# Altium schematic symbol library kmilo17pet-TI_MSP430.SchLib: 1463 symbols (part 26 of 130)
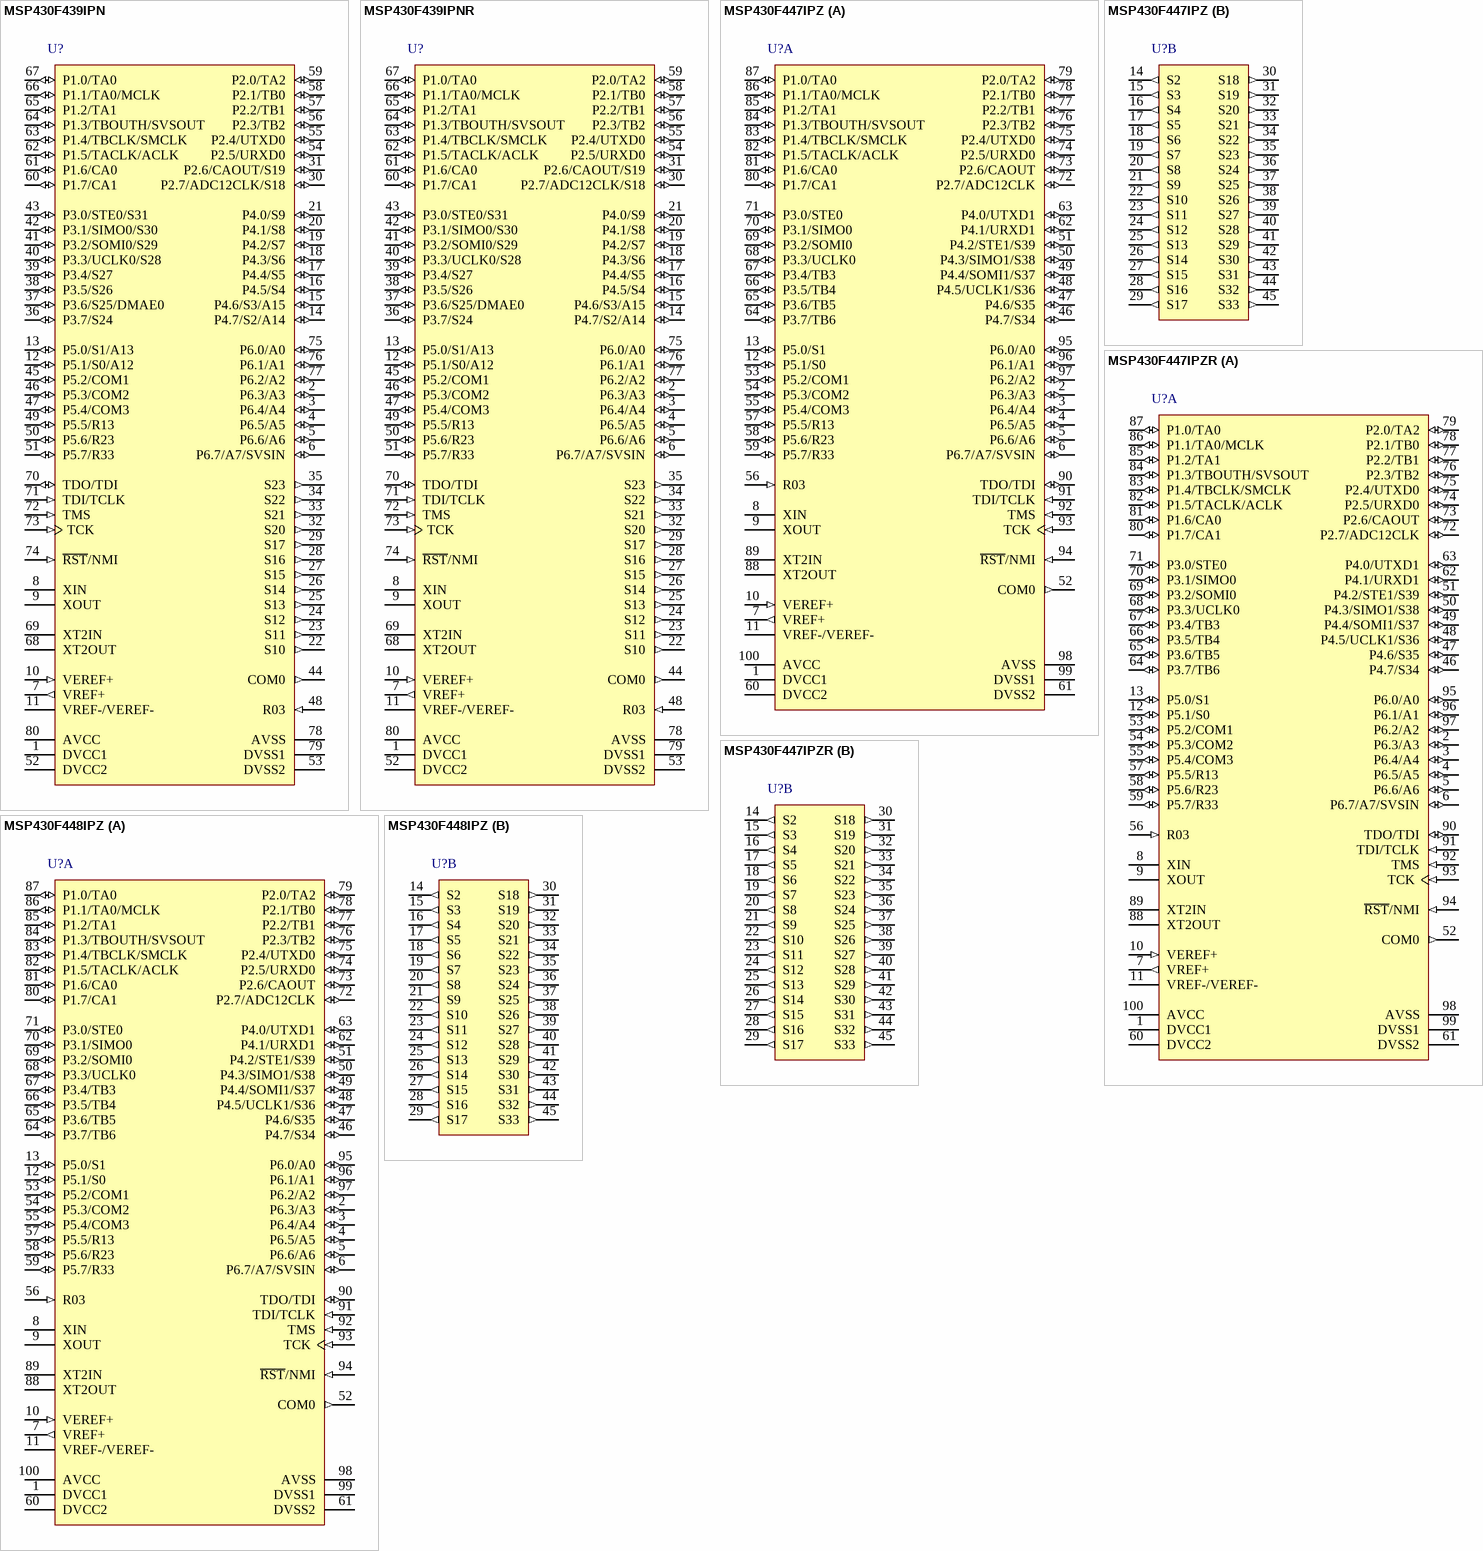
[diagram p349: symbols MSP430F439IPN to MSP430F448IPZ]

## MSP430F448IPZ
designator U?
8 MHz Mixed Signal Microcontroller with 48 KB Flash, 2048 B SRAM and 48 GPIOs, -40 to 85 degC, 100-pin QFP (PZ), Green (RoHS & no Sb/Br); Manufacturer: Texas Instruments; PartNumber: MSP430F448IPZ; ADC: 12-bit SAR; Brown Out Reset: Yes; Flash(KB): 48; Frequency(MHz): 8; LCD Segments: 160; Multiplier: 16x16; SRAM(B): 2048; SubFamily: 4 Series with LCD; USART: 2; DatasheetVersion: SLAS344G; PackageVersion: 4040149/B; PackageReference: PZ100; PackageDescription: 100-Pin Plastic Flat Pack, Body 14 x 14 mm, Pitch 0.5 mm; Supplier 1: Digi-Key; Supplier Part Number 1: 296-25607-2-ND; Supplier 2: Digi-Key; Supplier Part Number 2: 296-25607-1-ND; Supplier 3: Digi-Key; Supplier Part Number 3: 296-25607-6-ND; Supplier 4: Mouser; Supplier Part Number 4: 595-MSP430F4481IPZR; Comparators: Yes; Eco-Plan: Green (RoHS & no Sb/Br); GPIO: 48; SVS: Yes; Temp Sensor: Yes; Watchdog: Yes; Mounting Technology: Surface Mount; Code_JEDEC: MS-026; ComponentLink1Description: Manufacturer URL; ComponentLink1URL: http://www.ti.com/; ComponentLink2Description: Datasheet; ComponentLink2URL: http://www.ti.com/general/docs/lit/getliterature.tsp?genericPartNumber=MSP430F448&fileType=pdf; ComponentLink3Description: Package Specification; ComponentLink3URL: http://www.ti.com/lit/ml/mtqf013a/mtqf013a.pdf
footprint TI-PZ100_N (QFP, 100-Leads, Body 14x14mm, Pitch 0.5mm, IPC Medium Density)
part A pins: 1 DVCC1 (power) "Digital supply voltage, positive terminal.", 2 P6.3/A3 (io), 3 P6.4/A4 (io), 4 P6.5/A5 (io), 5 P6.6/A6 (io), 6 P6.7/A7/SVSIN (io), 7 VREF+ (out) "Output of positive terminal of the reference voltage in the ADC", 8 XIN "Input port for crystal oscillator XT1. Standard or watch crystals can be connected.", 9 XOUT "Output terminal of crystal oscillator XT1", 10 VEREF+ (in) "Input for an external reference voltage to the ADC", 11 VREF-/VEREF-, 12 P5.1/S0 (io), 13 P5.0/S1 (io), 46 P4.7/S34 (io), 47 P4.6/S35 (io), 48 P4.5/UCLK1/S36 (io), 49 P4.4/SOMI1/S37 (io), 50 P4.3/SIMO1/S38 (io), 51 P4.2/STE1/S39 (io), 52 COM0 (out) "COM0-3 are used for LCD backplanes.", 53 P5.2/COM1 (io), 54 P5.3/COM2 (io), 55 P5.4/COM3 (io), 56 R03 (in) "Input port of fourth positive (lowest) analog LCD level (V5)", 57 P5.5/R13 (io), 58 P5.6/R23 (io), 59 P5.7/R33 (io), 60 DVCC2 (power) "Digital supply voltage, positive terminal.", 61 DVSS2 (power) "Digital supply voltage, negative terminal.", 62 P4.1/URXD1 (io), 63 P4.0/UTXD1 (io), 64 P3.7/TB6 (io), 65 P3.6/TB5 (io), 66 P3.5/TB4 (io), 67 P3.4/TB3 (io), 68 P3.3/UCLK0 (io), 69 P3.2/SOMI0 (io), 70 P3.1/SIMO0 (io), 71 P3.0/STE0 (io), 72 P2.7/ADC12CLK (io), 73 P2.6/CAOUT (io), 74 P2.5/URXD0 (io), 75 P2.4/UTXD0 (io), 76 P2.3/TB2 (io), 77 P2.2/TB1 (io), 78 P2.1/TB0 (io), 79 P2.0/TA2 (io), 80 P1.7/CA1 (io), 81 P1.6/CA0 (io), 82 P1.5/TACLK/ACLK (io), 83 P1.4/TBCLK/SMCLK (io), 84 P1.3/TBOUTH/SVSOUT (io), 85 P1.2/TA1 (io), 86 P1.1/TA0/MCLK (io), 87 P1.0/TA0 (io), 88 XT2OUT "Output terminal of crystal oscillator XT2", 89 XT2IN "Input port for crystal oscillator XT2. Only standard crystals can be connected.", 90 TDO/TDI (io), 91 TDI/TCLK (in), 92 TMS (in) "Test mode select. TMS is used as an input port for device programming and test.", 93 TCK (in) "Test clock. TCK is the clock input port for device programming and test.", 94 ~{RST}/NMI (in), 95 P6.0/A0 (io), 96 P6.1/A1 (io), 97 P6.2/A2 (io), 98 AVSS (power) "Analog supply voltage, negative terminal. Supplies SVS, brownout, oscillator, comparator_A, ADC12, port 1, and LCD resistive divider circuitry.", 99 DVSS1 (power) "Digital supply voltage, negative terminal.", 100 AVCC (power) "Analog supply voltage, positive terminal. Supplies SVS, brownout, oscillator, comparator_A, ADC12, port 1, and LCD resistive divider circuitry; must not power up prior to DVCC1/DVCC2."
part B pins: 14 S2 (out) "LCD segment output 2", 15 S3 (out) "LCD segment output 3", 16 S4 (out) "LCD segment output 4", 17 S5 (out) "LCD segment output 5", 18 S6 (out) "LCD segment output 6", 19 S7 (out) "LCD segment output 7", 20 S8 (out) "LCD segment output 8", 21 S9 (out) "LCD segment output 9", 22 S10 (out) "LCD segment output 10", 23 S11 (out) "LCD segment output 11", 24 S12 (out) "LCD segment output 12", 25 S13 (out) "LCD segment output 13", 26 S14 (out) "LCD segment output 14", 27 S15 (out) "LCD segment output 15", 28 S16 (out) "LCD segment output 16", 29 S17 (out) "LCD segment output 17", 30 S18 (out) "LCD segment output 18", 31 S19 (out) "LCD segment output 19", 32 S20 (out) "LCD segment output 20", 33 S21 (out) "LCD segment output 21", 34 S22 (out) "LCD segment output 22", 35 S23 (out) "LCD segment output 23", 36 S24 (out) "LCD segment output 24", 37 S25 (out) "LCD segment output 25", 38 S26 (out) "LCD segment output 26", 39 S27 (out) "LCD segment output 27", 40 S28 (out) "LCD segment output 28", 41 S29 (out) "LCD segment output 29", 42 S30 (out) "LCD segment output 30", 43 S31 (out) "LCD segment output 31", 44 S32 (out) "LCD segment output 32", 45 S33 (out) "LCD segment output 33"

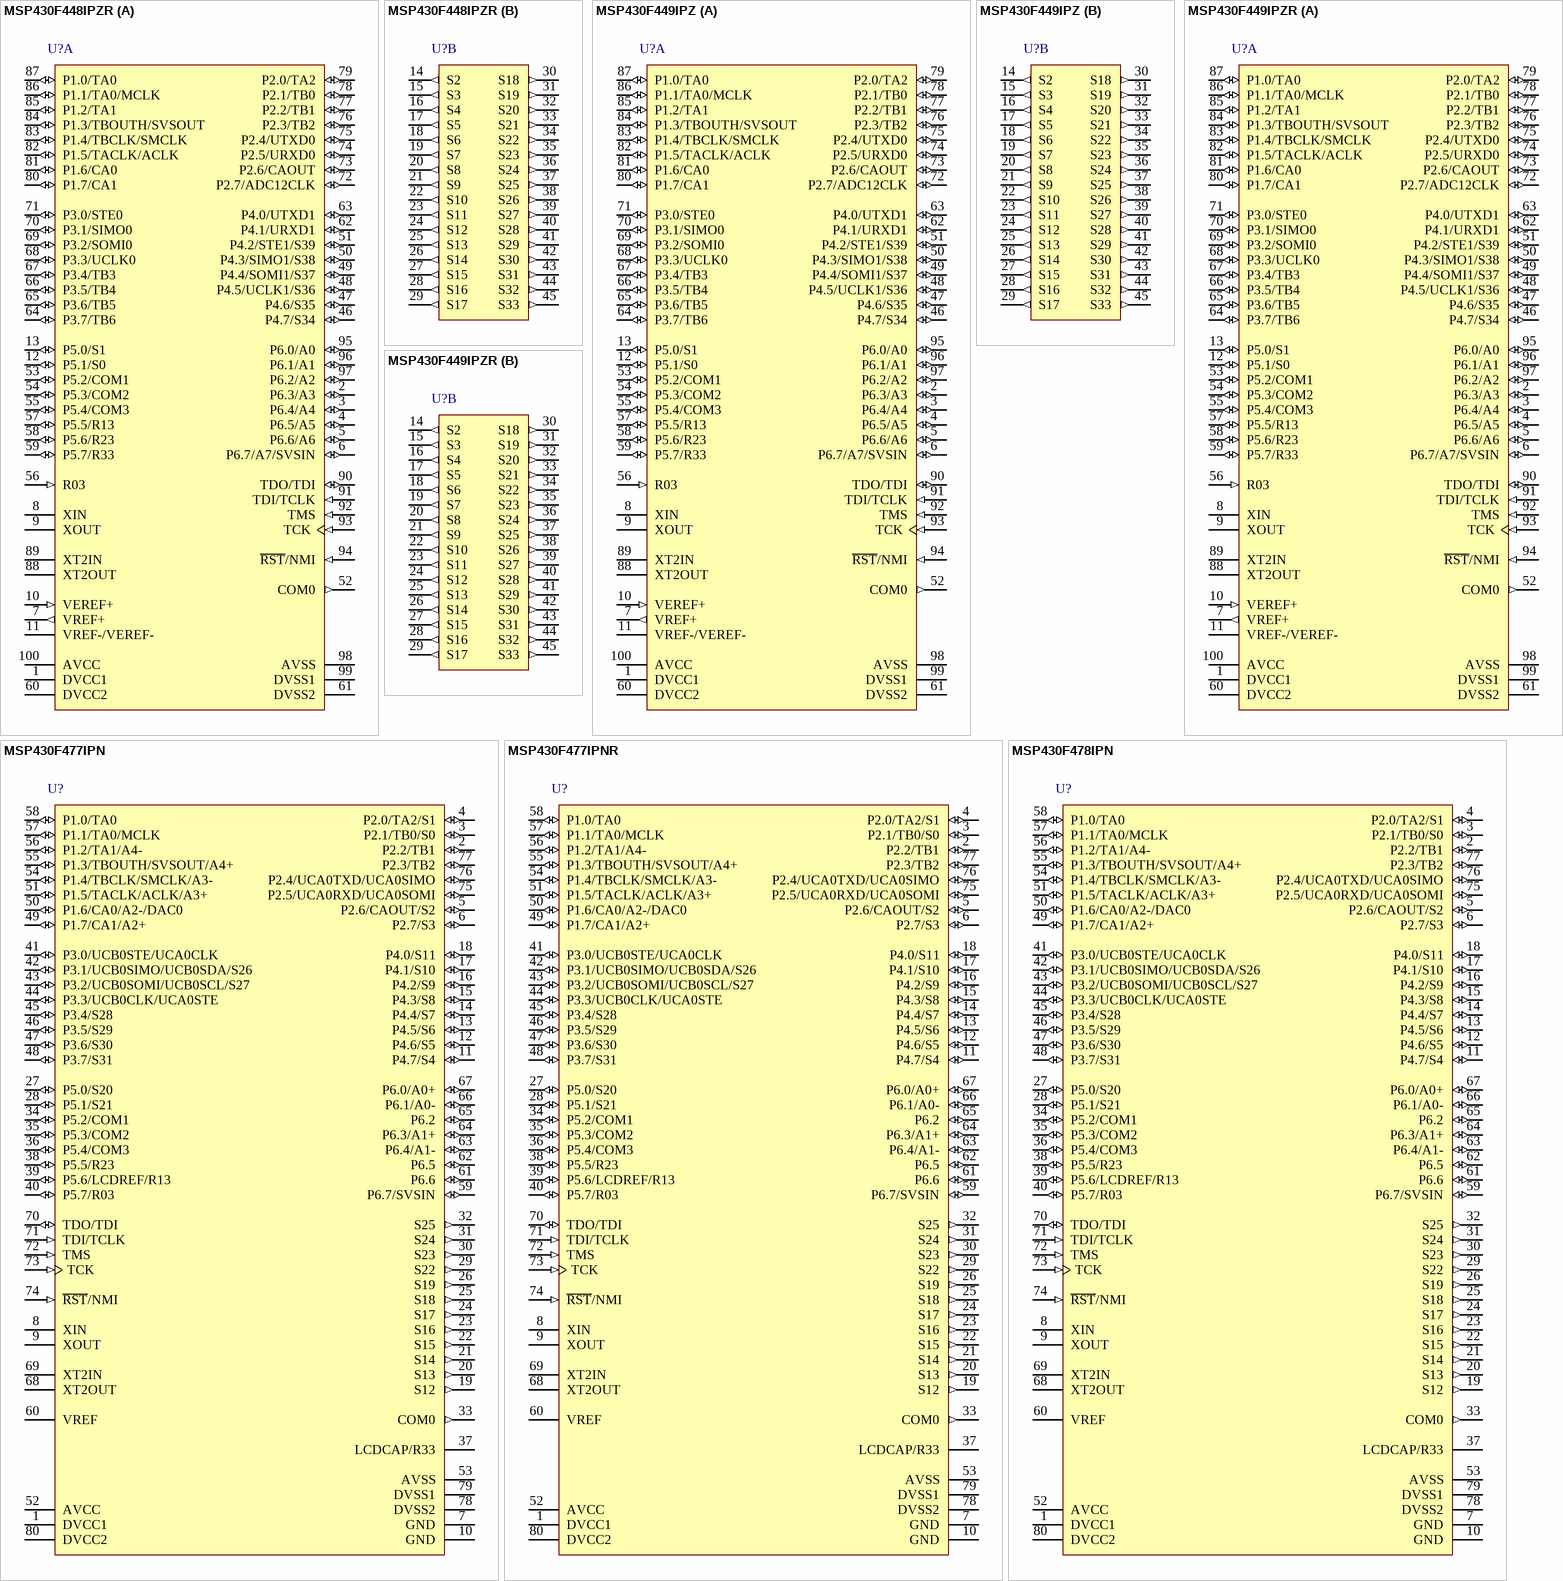
[diagram p38: symbols MSP430F448IPZR to MSP430F478IPN]

## MSP430F448IPZR
designator U?
8 MHz Mixed Signal Microcontroller with 48 KB Flash, 2048 B SRAM and 48 GPIOs, -40 to 85 degC, 100-pin QFP (PZ), Green (RoHS & no Sb/Br); Manufacturer: Texas Instruments; PartNumber: MSP430F448IPZR; ADC: 12-bit SAR; Brown Out Reset: Yes; Flash(KB): 48; Frequency(MHz): 8; LCD Segments: 160; Multiplier: 16x16; SRAM(B): 2048; SubFamily: 4 Series with LCD; USART: 2; DatasheetVersion: SLAS344G; PackageVersion: 4040149/B; PackageReference: PZ100; PackageDescription: 100-Pin Plastic Flat Pack, Body 14 x 14 mm, Pitch 0.5 mm; Supplier 1: Digi-Key; Supplier Part Number 1: 296-12639-ND; Supplier 2: Farnell; Supplier Part Number 2: 9858032; Supplier 3: Newark; Supplier Part Number 3: 35K4769; Supplier 4: Mouser; Supplier Part Number 4: 595-430F448IPZ; Comparators: Yes; Eco-Plan: Green (RoHS & no Sb/Br); GPIO: 48; SVS: Yes; Temp Sensor: Yes; Watchdog: Yes; Mounting Technology: Surface Mount; Code_JEDEC: MS-026; ComponentLink1Description: Manufacturer URL; ComponentLink1URL: http://www.ti.com/; ComponentLink2Description: Datasheet; ComponentLink2URL: http://www.ti.com/general/docs/lit/getliterature.tsp?genericPartNumber=MSP430F448&fileType=pdf; ComponentLink3Description: Package Specification; ComponentLink3URL: http://www.ti.com/lit/ml/mtqf013a/mtqf013a.pdf
footprint TI-PZ100_N (QFP, 100-Leads, Body 14x14mm, Pitch 0.5mm, IPC Medium Density)
part A pins: 1 DVCC1 (power) "Digital supply voltage, positive terminal.", 2 P6.3/A3 (io), 3 P6.4/A4 (io), 4 P6.5/A5 (io), 5 P6.6/A6 (io), 6 P6.7/A7/SVSIN (io), 7 VREF+ (out) "Output of positive terminal of the reference voltage in the ADC", 8 XIN "Input port for crystal oscillator XT1. Standard or watch crystals can be connected.", 9 XOUT "Output terminal of crystal oscillator XT1", 10 VEREF+ (in) "Input for an external reference voltage to the ADC", 11 VREF-/VEREF-, 12 P5.1/S0 (io), 13 P5.0/S1 (io), 46 P4.7/S34 (io), 47 P4.6/S35 (io), 48 P4.5/UCLK1/S36 (io), 49 P4.4/SOMI1/S37 (io), 50 P4.3/SIMO1/S38 (io), 51 P4.2/STE1/S39 (io), 52 COM0 (out) "COM0-3 are used for LCD backplanes.", 53 P5.2/COM1 (io), 54 P5.3/COM2 (io), 55 P5.4/COM3 (io), 56 R03 (in) "Input port of fourth positive (lowest) analog LCD level (V5)", 57 P5.5/R13 (io), 58 P5.6/R23 (io), 59 P5.7/R33 (io), 60 DVCC2 (power) "Digital supply voltage, positive terminal.", 61 DVSS2 (power) "Digital supply voltage, negative terminal.", 62 P4.1/URXD1 (io), 63 P4.0/UTXD1 (io), 64 P3.7/TB6 (io), 65 P3.6/TB5 (io), 66 P3.5/TB4 (io), 67 P3.4/TB3 (io), 68 P3.3/UCLK0 (io), 69 P3.2/SOMI0 (io), 70 P3.1/SIMO0 (io), 71 P3.0/STE0 (io), 72 P2.7/ADC12CLK (io), 73 P2.6/CAOUT (io), 74 P2.5/URXD0 (io), 75 P2.4/UTXD0 (io), 76 P2.3/TB2 (io), 77 P2.2/TB1 (io), 78 P2.1/TB0 (io), 79 P2.0/TA2 (io), 80 P1.7/CA1 (io), 81 P1.6/CA0 (io), 82 P1.5/TACLK/ACLK (io), 83 P1.4/TBCLK/SMCLK (io), 84 P1.3/TBOUTH/SVSOUT (io), 85 P1.2/TA1 (io), 86 P1.1/TA0/MCLK (io), 87 P1.0/TA0 (io), 88 XT2OUT "Output terminal of crystal oscillator XT2", 89 XT2IN "Input port for crystal oscillator XT2. Only standard crystals can be connected.", 90 TDO/TDI (io), 91 TDI/TCLK (in), 92 TMS (in) "Test mode select. TMS is used as an input port for device programming and test.", 93 TCK (in) "Test clock. TCK is the clock input port for device programming and test.", 94 ~{RST}/NMI (in), 95 P6.0/A0 (io), 96 P6.1/A1 (io), 97 P6.2/A2 (io), 98 AVSS (power) "Analog supply voltage, negative terminal. Supplies SVS, brownout, oscillator, comparator_A, ADC12, port 1, and LCD resistive divider circuitry.", 99 DVSS1 (power) "Digital supply voltage, negative terminal.", 100 AVCC (power) "Analog supply voltage, positive terminal. Supplies SVS, brownout, oscillator, comparator_A, ADC12, port 1, and LCD resistive divider circuitry; must not power up prior to DVCC1/DVCC2."
part B pins: 14 S2 (out) "LCD segment output 2", 15 S3 (out) "LCD segment output 3", 16 S4 (out) "LCD segment output 4", 17 S5 (out) "LCD segment output 5", 18 S6 (out) "LCD segment output 6", 19 S7 (out) "LCD segment output 7", 20 S8 (out) "LCD segment output 8", 21 S9 (out) "LCD segment output 9", 22 S10 (out) "LCD segment output 10", 23 S11 (out) "LCD segment output 11", 24 S12 (out) "LCD segment output 12", 25 S13 (out) "LCD segment output 13", 26 S14 (out) "LCD segment output 14", 27 S15 (out) "LCD segment output 15", 28 S16 (out) "LCD segment output 16", 29 S17 (out) "LCD segment output 17", 30 S18 (out) "LCD segment output 18", 31 S19 (out) "LCD segment output 19", 32 S20 (out) "LCD segment output 20", 33 S21 (out) "LCD segment output 21", 34 S22 (out) "LCD segment output 22", 35 S23 (out) "LCD segment output 23", 36 S24 (out) "LCD segment output 24", 37 S25 (out) "LCD segment output 25", 38 S26 (out) "LCD segment output 26", 39 S27 (out) "LCD segment output 27", 40 S28 (out) "LCD segment output 28", 41 S29 (out) "LCD segment output 29", 42 S30 (out) "LCD segment output 30", 43 S31 (out) "LCD segment output 31", 44 S32 (out) "LCD segment output 32", 45 S33 (out) "LCD segment output 33"

## MSP430F449IPZ
designator U?
8 MHz Mixed Signal Microcontroller with 60 KB Flash, 2048 B SRAM and 48 GPIOs, -40 to 85 degC, 100-pin QFP (PZ), Green (RoHS & no Sb/Br); Manufacturer: Texas Instruments; PartNumber: MSP430F449IPZ; ADC: 12-bit SAR; Brown Out Reset: Yes; Flash(KB): 60; Frequency(MHz): 8; GPIO: 48; LCD Segments: 160; Multiplier: 16x16; SRAM(B): 2048; SubFamily: 4 Series with LCD; USART: 2; DatasheetVersion: SLAS344G; PackageVersion: 4040149/B; PackageReference: PZ100; PackageDescription: 100-Pin Plastic Flat Pack, Body 14 x 14 mm, Pitch 0.5 mm; Supplier 1: Digi-Key; Supplier Part Number 1: 296-25608-2-ND; Supplier 2: Digi-Key; Supplier Part Number 2: 296-25608-1-ND; Supplier 3: Digi-Key; Supplier Part Number 3: 296-25608-6-ND; Supplier 4: Newark; Supplier Part Number 4: 50R7799; Supplier 5: Mouser; Supplier Part Number 5: 595-MSP430F4491IPZR; Comparators: Yes; Eco-Plan: Green (RoHS & no Sb/Br); SVS: Yes; Temp Sensor: Yes; Watchdog: Yes; Mounting Technology: Surface Mount; Code_JEDEC: MS-026; ComponentLink1Description: Manufacturer URL; ComponentLink1URL: http://www.ti.com/; ComponentLink2Description: Datasheet; ComponentLink2URL: http://www.ti.com/general/docs/lit/getliterature.tsp?genericPartNumber=MSP430F449&fileType=pdf; ComponentLink3Description: Package Specification; ComponentLink3URL: http://www.ti.com/lit/ml/mtqf013a/mtqf013a.pdf
footprint TI-PZ100_N (QFP, 100-Leads, Body 14x14mm, Pitch 0.5mm, IPC Medium Density)
part A pins: 1 DVCC1 (power) "Digital supply voltage, positive terminal.", 2 P6.3/A3 (io), 3 P6.4/A4 (io), 4 P6.5/A5 (io), 5 P6.6/A6 (io), 6 P6.7/A7/SVSIN (io), 7 VREF+ (out) "Output of positive terminal of the reference voltage in the ADC", 8 XIN "Input port for crystal oscillator XT1. Standard or watch crystals can be connected.", 9 XOUT "Output terminal of crystal oscillator XT1", 10 VEREF+ (in) "Input for an external reference voltage to the ADC", 11 VREF-/VEREF-, 12 P5.1/S0 (io), 13 P5.0/S1 (io), 46 P4.7/S34 (io), 47 P4.6/S35 (io), 48 P4.5/UCLK1/S36 (io), 49 P4.4/SOMI1/S37 (io), 50 P4.3/SIMO1/S38 (io), 51 P4.2/STE1/S39 (io), 52 COM0 (out) "COM0-3 are used for LCD backplanes.", 53 P5.2/COM1 (io), 54 P5.3/COM2 (io), 55 P5.4/COM3 (io), 56 R03 (in) "Input port of fourth positive (lowest) analog LCD level (V5)", 57 P5.5/R13 (io), 58 P5.6/R23 (io), 59 P5.7/R33 (io), 60 DVCC2 (power) "Digital supply voltage, positive terminal.", 61 DVSS2 (power) "Digital supply voltage, negative terminal.", 62 P4.1/URXD1 (io), 63 P4.0/UTXD1 (io), 64 P3.7/TB6 (io), 65 P3.6/TB5 (io), 66 P3.5/TB4 (io), 67 P3.4/TB3 (io), 68 P3.3/UCLK0 (io), 69 P3.2/SOMI0 (io), 70 P3.1/SIMO0 (io), 71 P3.0/STE0 (io), 72 P2.7/ADC12CLK (io), 73 P2.6/CAOUT (io), 74 P2.5/URXD0 (io), 75 P2.4/UTXD0 (io), 76 P2.3/TB2 (io), 77 P2.2/TB1 (io), 78 P2.1/TB0 (io), 79 P2.0/TA2 (io), 80 P1.7/CA1 (io), 81 P1.6/CA0 (io), 82 P1.5/TACLK/ACLK (io), 83 P1.4/TBCLK/SMCLK (io), 84 P1.3/TBOUTH/SVSOUT (io), 85 P1.2/TA1 (io), 86 P1.1/TA0/MCLK (io), 87 P1.0/TA0 (io), 88 XT2OUT "Output terminal of crystal oscillator XT2", 89 XT2IN "Input port for crystal oscillator XT2. Only standard crystals can be connected.", 90 TDO/TDI (io), 91 TDI/TCLK (in), 92 TMS (in) "Test mode select. TMS is used as an input port for device programming and test.", 93 TCK (in) "Test clock. TCK is the clock input port for device programming and test.", 94 ~{RST}/NMI (in), 95 P6.0/A0 (io), 96 P6.1/A1 (io), 97 P6.2/A2 (io), 98 AVSS (power) "Analog supply voltage, negative terminal. Supplies SVS, brownout, oscillator, comparator_A, ADC12, port 1, and LCD resistive divider circuitry.", 99 DVSS1 (power) "Digital supply voltage, negative terminal.", 100 AVCC (power) "Analog supply voltage, positive terminal. Supplies SVS, brownout, oscillator, comparator_A, ADC12, port 1, and LCD resistive divider circuitry; must not power up prior to DVCC1/DVCC2."
part B pins: 14 S2 (out) "LCD segment output 2", 15 S3 (out) "LCD segment output 3", 16 S4 (out) "LCD segment output 4", 17 S5 (out) "LCD segment output 5", 18 S6 (out) "LCD segment output 6", 19 S7 (out) "LCD segment output 7", 20 S8 (out) "LCD segment output 8", 21 S9 (out) "LCD segment output 9", 22 S10 (out) "LCD segment output 10", 23 S11 (out) "LCD segment output 11", 24 S12 (out) "LCD segment output 12", 25 S13 (out) "LCD segment output 13", 26 S14 (out) "LCD segment output 14", 27 S15 (out) "LCD segment output 15", 28 S16 (out) "LCD segment output 16", 29 S17 (out) "LCD segment output 17", 30 S18 (out) "LCD segment output 18", 31 S19 (out) "LCD segment output 19", 32 S20 (out) "LCD segment output 20", 33 S21 (out) "LCD segment output 21", 34 S22 (out) "LCD segment output 22", 35 S23 (out) "LCD segment output 23", 36 S24 (out) "LCD segment output 24", 37 S25 (out) "LCD segment output 25", 38 S26 (out) "LCD segment output 26", 39 S27 (out) "LCD segment output 27", 40 S28 (out) "LCD segment output 28", 41 S29 (out) "LCD segment output 29", 42 S30 (out) "LCD segment output 30", 43 S31 (out) "LCD segment output 31", 44 S32 (out) "LCD segment output 32", 45 S33 (out) "LCD segment output 33"